# EAGLE library part 74LVC02ABQ,115 (library 74LVC02ABQ_115)
Buffer, Non-Inverting 4 Element 1 Bit per Element 3-State Output 14-DHVQFN (2.5x3) Source: Datasheet <https://assets.nexperia.com/documents/data-sheet/74LVC02A.pdf>
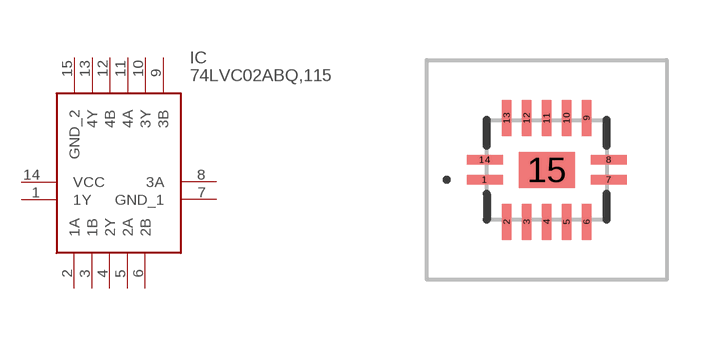
[diagram p0: symbol with the pads of 74LVC02ABQ115; footprint 74LVC02ABQ115]

Designator prefix IC

## 74LVC02ABQ,115 (Description: Buffer, Non-Inverting 4 Element 1 Bit per Element 3-State Output 14-DHVQFN (2.5x3); Height: 1mm; Manufacturer_Name: Nexperia; Manufacturer_Part_Number: 74LVC02ABQ,115; Mouser_Part_Number: 771-LVC02ABQ115; Mouser_Price-Stock: https://www.mouser.co.uk/ProductDetail/Nexperia/74LVC02ABQ115?qs=me8TqzrmIYVKyFq1%2FauiSw%3D%3D)  [74LVC02ABQ115]
1  1Y
2  1A
3  1B
4  2Y
5  2A
6  2B
7  GND_1
8  3A
9  3B
10  3Y
11  4A
12  4B
13  4Y
14  VCC
15  GND_2

## Footprint 74LVC02ABQ115 (pad centres in mm)
74LVC02ABQ,115-1
smd 0.9 x 0.24: 1 -1.55,-0.25; 7 1.55,-0.25; 8 1.55,0.25; 14 -1.55,0.25
smd 0.24 x 0.9: 2 -1,-1.3; 3 -0.5,-1.3; 4 0,-1.3; 5 0.5,-1.3; 6 1,-1.3; 9 1,1.3; 10 0.5,1.3; 11 0,1.3; 12 -0.5,1.3; 13 -1,1.3
smd 1.4 x 0.9: 15 0,0